# Altium footprint library HardWare.PcbLib: 173 footprints (part 11 of 11)
Each footprint in its own frame and in the unit in brackets; x right, y up, seen from the top. Pads: shape width x height; smd on the part's side, far side on the other; paste and mask are expansions set on the pad; w line width, h text height; cw(c..) or ccw(c..) is an arc to the next point about the centre after c.
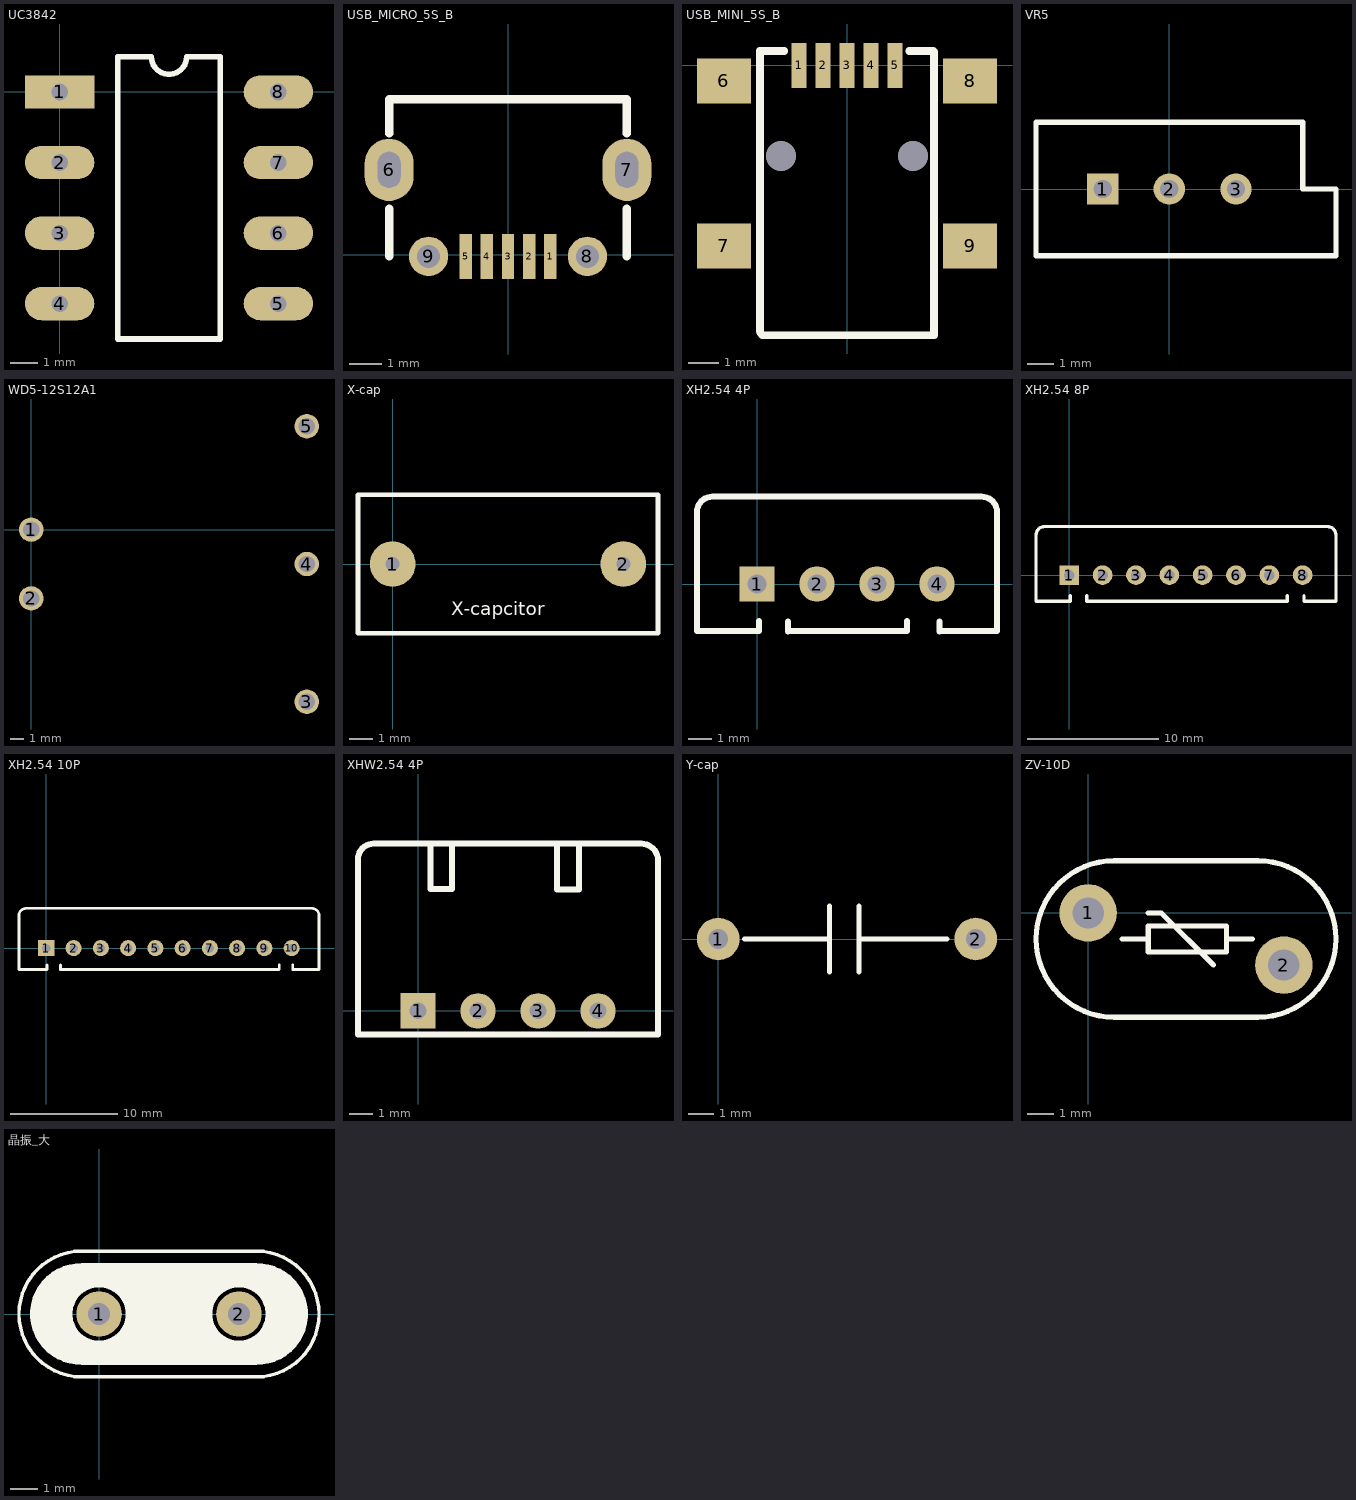
[diagram p10: the footprints below, top view; thin cyan lines are the x and y axes]

## UC3842 [mm]
height 5.08
pads (8):
  rect 2.5x1.2 hole 0.6: 1(0,0)
  oval 2.5x1.2 hole 0.6: 2(0,-2.54) 3(0,-5.08) 4(0,-7.62) 5(7.87,-7.62) 6(7.87,-5.08) 7(7.87,-2.54) 8(7.87,0)
Top Overlay:
  lines w0.2: 2.085,-8.89 2.085,1.27 3.3,1.27 ccw(c3.935,1.27) 4.57,1.27 5.785,1.27 5.785,-8.89 2.085,-8.89

## USB_MICRO_5S_B [mil] "USB_MICRO_5S_B"
height 118.11
pads (9):
  rect 15x54 smd: 1(51,-2) 2(25.5,-2) 3(0,-2) 4(-25.5,-2) 5(-51,-2)
  oval 59.06x74.8 hole 27.56 slot 43.31 at 90 deg: 6(-143,102) 7(143,102)
  round 47.24 hole 27.5: 8(95.5,-2) 9(-95.5,-2)
Top Overlay:
  lines w10: -142.72,-2 -142.72,55.28 ; -142.72,145.72 -142.72,186.98 142.72,186.98 142.72,145.72 ; 142.72,-2 142.72,55.28
3D body "User Library-Micro USB-B_Molex_105017-0001.step": height 105.31, standoff -24.61, extent -161.42,-11.33 161.42,202.45

## USB_MINI_5S_B [mm]
height 3.9
pads (11):
  rect 0.5x1.5 smd: 1(-1.6,0) 2(-0.8,0) 3(0,0) 4(0.8,0) 5(1.6,0)
  rect 1.8x1.5 smd: 6(-4.1,-0.52) 7(-4.1,-6.02) 8(4.1,-0.52) 9(4.1,-6.02)
  round 0.99 hole 1: ""(-2.2,-3.02) ""(2.2,-3.02)
Top Overlay:
  lines w0.254: -2.9,-8.868 -2.9,0.483 ; -2.9,0.479 -2.091,0.479 ; -2.896,-8.915 -2.816,-8.995 2.896,-8.995 ; 2.081,0.479 2.878,0.479 2.9,0.457 2.9,-8.995

## VR5 [mm] "Potentiometer; 3 Leads"
height 1.75
pads (3):
  rect 1.2x1.2 hole 0.7: 1(-2.54,0)
  round 1.2 hole 0.7: 2(0,0) 3(2.54,0)
Top Overlay:
  lines w0.2: -5.08,-2.54 6.35,-2.54 6.35,0 5.08,0 5.08,2.54 -5.08,2.54 -5.08,-2.54

## WD5-12S12A1 [mm] "5w"
pads (5):
  round 1.8 hole 1.2: 1(0,0) 2(0,-5.08) 3(20.32,-12.7) 4(20.32,-2.54) 5(20.32,7.62)

## X-cap [mil]
pads (2):
  round 78 hole 23.7: 1(0,0) 2(393.7,0)
Top Overlay:
  lines w7.87: -59.05,-118.11 452.75,-118.11 452.76,118.11 -59.05,118.11 -59.06,-118.11
  text "X-capcitor" at 100,-95 h39.37

## XH2.54 4P [mm] "直针座"
height 8.95
pads (4):
  rect 1.5x1.5 hole 0.8: 1(0,0)
  round 1.5 hole 0.8: 2(2.54,0) 3(5.08,0) 4(7.62,0)
Top Overlay:
  lines w0.254: 0.076,-1.575 0.076,-2 -2.54,-2 -2.54,3.048 cw(c-1.888,3.048) -1.888,3.7 9.508,3.7 cw(c9.508,3.048) 10.16,3.048 10.16,-2 7.747,-2 ; 1.321,-2.007 1.321,-1.581 ; 1.346,-2 6.35,-2 6.35,-1.575 ; 7.722,-2.007 7.722,-1.581

## XH2.54 8P [mm]
height 8.95
pads (8):
  rect 1.5x1.5 hole 0.8: 1(0,0)
  round 1.5 hole 0.8: 2(2.54,0) 3(5.08,0) 4(7.62,0) 5(10.16,0) 6(12.7,0) 7(15.24,0) 8(17.78,0)
Top Overlay:
  lines w0.254: 0.076,-1.575 0.076,-2 -2.54,-2 -2.54,3.048 cw(c-1.888,3.048) -1.888,3.7 19.668,3.7 cw(c19.668,3.048) 20.32,3.048 20.32,-2 17.907,-2 ; 1.321,-2.007 1.321,-1.581 ; 1.346,-2 16.612,-2 16.612,-1.575 ; 17.882,-2.007 17.882,-1.581

## XH2.54 10P [mm]
height 8.95
pads (10):
  rect 1.5x1.5 hole 0.8: 1(0,0)
  round 1.5 hole 0.8: 2(2.54,0) 3(5.08,0) 4(7.62,0) 5(10.16,0) 6(12.7,0) 7(15.24,0) 8(17.78,0) 9(20.32,0) 10(22.86,0)
Top Overlay:
  lines w0.254: 0.076,-1.575 0.076,-2 -2.54,-2 -2.54,3.048 cw(c-1.888,3.048) -1.888,3.7 24.748,3.7 cw(c24.748,3.048) 25.4,3.048 25.4,-2 22.987,-2 ; 1.321,-2.007 1.321,-1.581 ; 1.346,-2 21.666,-2 21.692,-1.975 21.692,-1.575 ; 22.962,-2.007 22.962,-1.581

## XHW2.54 4P [mm] "弯针座"
height 8.95
pads (4):
  rect 1.5x1.5 hole 0.7 square: 1(0,0)
  round 1.5 hole 0.7 square: 2(2.54,0) 3(5.08,0) 4(7.62,0)
Top Overlay:
  lines w0.254: -1.888,7.078 ccw(c-1.888,6.426) -2.54,6.426 -2.54,-0.991 10.16,-0.991 10.16,6.375 ccw(c9.456,6.375) 9.456,7.079 -1.888,7.079 ; 0.533,7.079 0.533,5.156 1.448,5.156 1.448,7.054 ; 5.893,7.054 5.893,5.131 6.807,5.131 6.807,7.028

## Y-cap [mil]
pads (2):
  round 65 hole 30: 1(0,0) 2(393.7,0)
Top Overlay:
  lines w7.87: 40,0 170,0 ; 170,-50 170,50 ; 215,-50 215,50 ; 215,0 350,0

## ZV-10D [mm]
height 1.75
pads (2):
  round 2.2 hole 1.2: 1(0,0) 2(7.5,-2)
Top Overlay:
  lines w0.2: 1.3,-1 2.3,-1 ; 2.3,0 2.8,0 4.8,-2 ; 5.3,-1 6.3,-1 ; 1,-4 cw(c1,-1) 1,2 6.5,2 cw(c6.5,-1) 6.5,-4 1,-4 ; 2.3,-1.5 2.3,-0.5 5.3,-0.5 5.3,-1.5 2.3,-1.5

## 晶振_大 [mil]
height 236.22
pads (2):
  round 65 hole 31.5: 1(0,0) 2(200,0)
Top Overlay:
  circle w30: c0,0 r53.15
  circle w30: c200,0 r53.15
  rectangle: 45.04,-65 155.04,70
  lines w5: -25.12,-90 cw(c-24.41,0) -25.12,90 225.12,90 cw(c224.41,0) 225.12,-90 -25.12,-90
  lines w8: -24.14,68.9 ccw(c-25.59,0) -24.02,-68.9 224.14,-68.9 ccw(c225.59,0) 224.02,68.9 -24.14,68.9
  lines w30: -80,-10 cw(c-20.13,-5.99) -20,54.01 ; -79.01,5 ccw(c-19.01,4.87) -15,-55 ; 15.99,55 cw(c20,-4.87) 80,-5 ; 20,-55 ccw(c20.13,5) 80,9.01 ; 120,-9.01 cw(c179.87,-5) 180,55 ; 120.99,5 ccw(c180.99,4.87) 185,-55 ; 215,55 cw(c219.01,-4.87) 279.01,-5 ; 220,-54.01 ccw(c220.13,5.99) 280,10
3D body "User Library-SMU-4.STEP": height 157.48, standoff 0, extent -147.64,-94.49 344.49,94.49